# Altium footprint library Logturtle_Power_Transmitter.PcbLib: 21 footprints (part 1 of 2)
Each footprint in its own frame and in the unit in brackets; x right, y up, seen from the top. Pads: shape width x height; smd on the part's side, far side on the other; paste and mask are expansions set on the pad; w line width, h text height; cw(c..) or ccw(c..) is an arc to the next point about the centre after c.
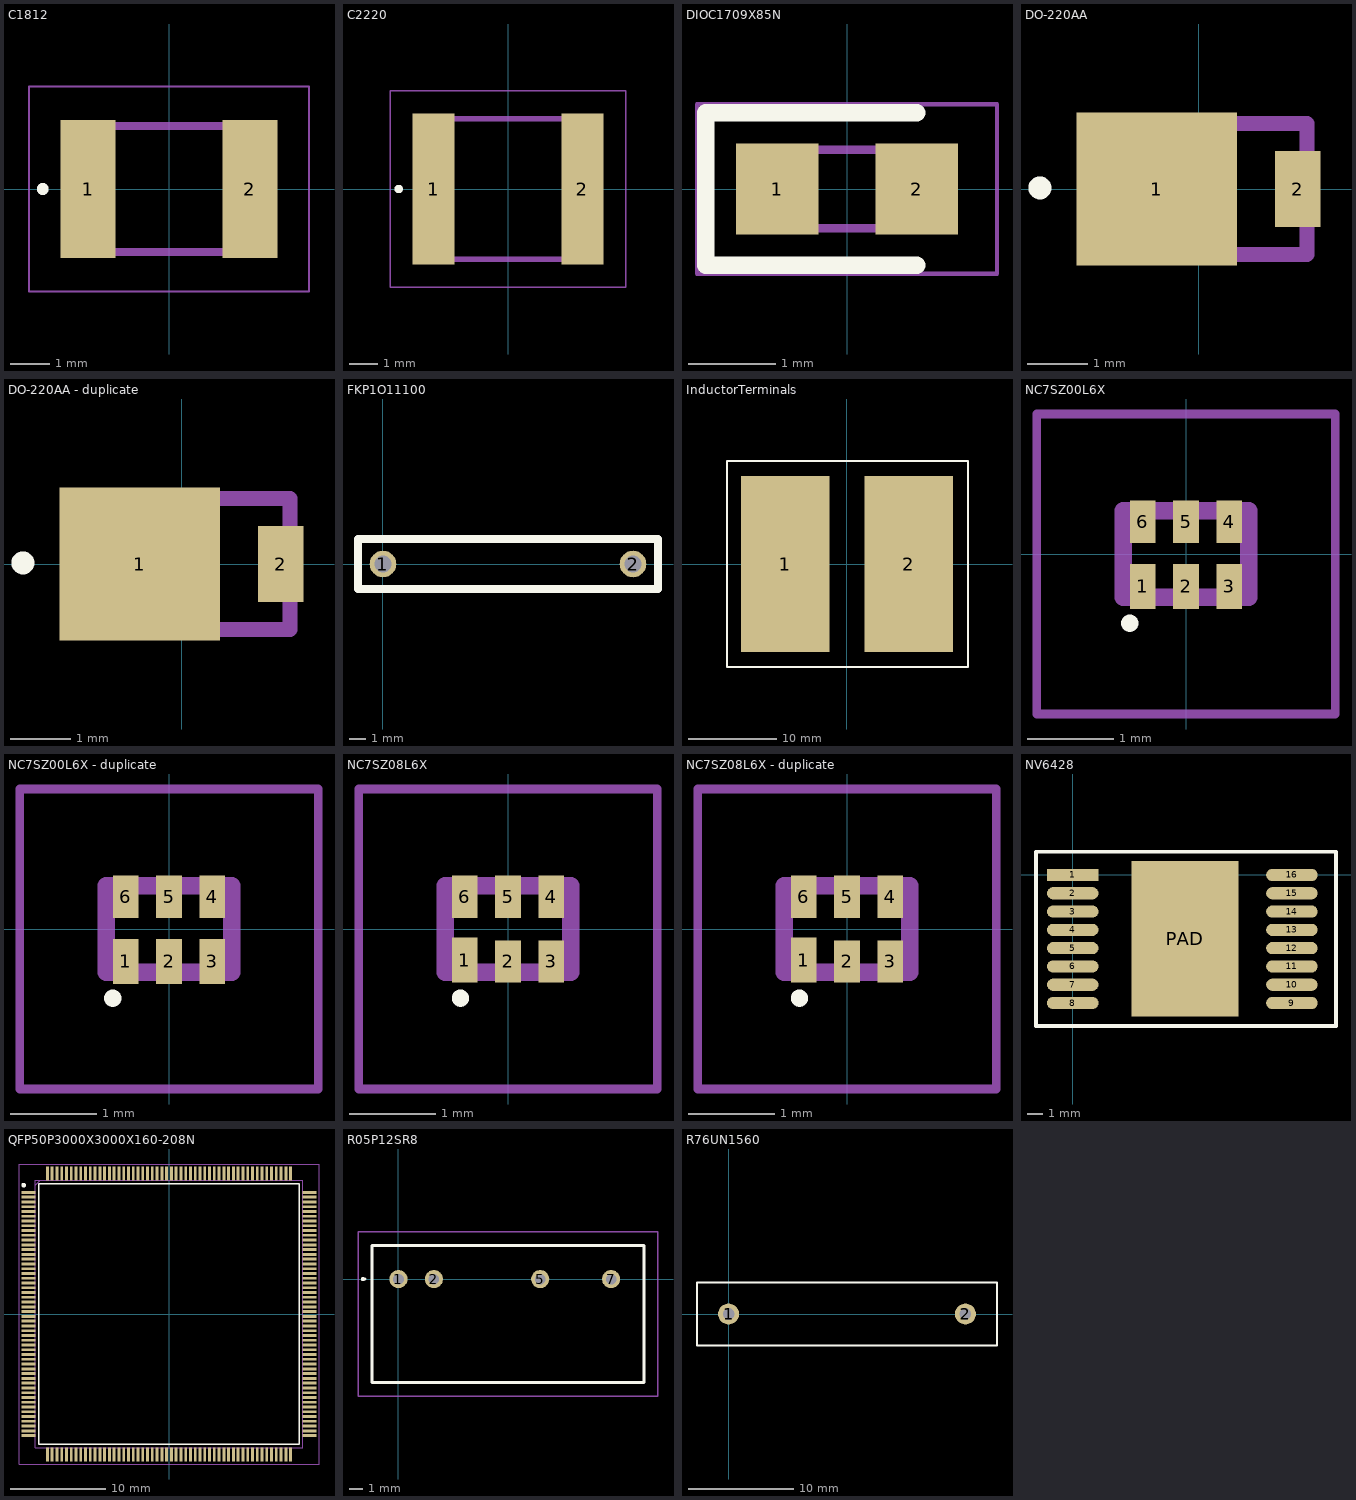
[diagram p0: the footprints below, top view; thin cyan lines are the x and y axes]

## C1812 [mm]
pads (2):
  rect 1.4x3.5 smd: 1(-2.05,0) 2(2.05,0)
Top Overlay:
  circle w0.2: c-3.2,0 r0.05
Mechanical 13:
  lines w0.2: -2.25,-1.6 2.25,-1.6 2.25,1.6 -2.25,1.6 -2.25,-1.6
Mechanical 15:
  lines w0.05: -3.55,-2.6 3.55,-2.6 3.55,2.6 -3.55,2.6 -3.55,-2.6
3D body "C1812C102JDGACAUTO.stp": height 1.4, standoff 0, extent -2.398,-1.751 2.402,1.749

## C2220 [mm]
pads (2):
  rect 1.5x5.4 smd: 1(-2.65,0) 2(2.65,0)
Top Overlay:
  circle w0.2: c-3.9,0 r0.05
Mechanical 13:
  lines w0.2: -2.85,-2.5 -2.85,2.5 2.85,2.5 2.85,-2.5 -2.85,-2.5
Mechanical 15:
  lines w0.05: -4.2,-3.5 -4.2,3.5 4.2,3.5 4.2,-3.5 -4.2,-3.5
3D body "C2220C102JGGACTU.stp": height 1.8, standoff 0, extent -3.05,-2.7 3.05,2.7

## DIOC1709X85N [mm]
pads (2):
  rect 0.95x1.05 smd: 1(-0.8,0) 2(0.8,0)
Top Overlay:
  lines w0.2: 0.8,-0.875 -1.625,-0.875 -1.625,0.875 0.8,0.875
Mechanical 13:
  lines w0.1: -0.85,-0.025 -0.375,0.45 ; -0.85,-0.45 0.85,-0.45 0.85,0.45 -0.85,0.45 -0.85,-0.45
Mechanical 15:
  lines w0.05: -1.725,-0.975 1.725,-0.975 1.725,0.975 -1.725,0.975 -1.725,-0.975
3D body "CD0603-Z5V1.stp": height 0.85, standoff 0, extent -0.85,-0.45 0.85,0.45

## DO-220AA [mil]
pads (2):
  rect 105.12x100 smd: 1(-27.5,0)
  rect 30x50 smd: 2(65.06,0)
Top Overlay:
  circle w10: c-104.06,0.75 r2.55
Mechanical 13:
  lines w10: -71.06,-42.91 71.06,-42.91 71.06,42.91 -71.06,42.91 -71.06,-42.91
3D body "SS2PH10-M3_84A.stp": height 39.37, standoff 0, extent -74.73,-40.07 76.84,39.85

## DO-220AA - duplicate [mil]
pads (2):
  rect 105.12x100 smd: 1(-27.5,0)
  rect 30x50 smd: 2(65.06,0)
Top Overlay:
  circle w10: c-104.06,0.75 r2.55
Mechanical 13:
  lines w10: -71.06,-42.91 71.06,-42.91 71.06,42.91 -71.06,42.91 -71.06,-42.91
3D body "SS2PH10-M3_84A.stp": height 39.37, standoff 0, extent -74.73,-40.07 76.84,39.85

## FKP1O11100 [mm]
pads (2):
  round 1.6 hole 1: 1(0,0) 2(15,0)
Top Overlay:
  lines w0.5: -1.5,-1.5 -1.5,1.5 0,1.5 15,1.5 16.5,1.5 16.5,-1.5 15,-1.5 0,-1.5 -1.5,-1.5

## InductorTerminals [mm]
pads (2):
  rect 10x20 smd: 1(-7,0) 2(7,0)
Top Overlay:
  lines w0.254: -13.589,-11.684 13.716,-11.684 13.716,11.684 -13.589,11.684 -13.589,-11.684

## NC7SZ00L6X [mm]
pads (6):
  rect 0.3x0.52 smd: 1(-0.5,-0.375) 2(0,-0.375) 3(0.5,-0.375)
  rect 0.3x0.49 smd: 4(0.5,0.375) 5(0,0.375) 6(-0.5,0.375)
Top Overlay:
  lines w0.1: -0.7,-0.8 cw(c-0.65,-0.8) -0.6,-0.8 cw(c-0.65,-0.8) -0.7,-0.8
Mechanical 13:
  lines w0.2: -0.725,-0.5 0.725,-0.5 0.725,0.5 -0.725,0.5 -0.725,-0.5
Mechanical 15:
  lines w0.1: -1.725,-1.85 1.725,-1.85 1.725,1.62 -1.725,1.62 -1.725,-1.85
3D body "NC7SZ00L6X.stp": height 0.65, standoff 0, extent -0.725,-0.5 0.725,0.5

## NC7SZ00L6X - duplicate [mm]
pads (6):
  rect 0.3x0.52 smd: 1(-0.5,-0.375) 2(0,-0.375) 3(0.5,-0.375)
  rect 0.3x0.49 smd: 4(0.5,0.375) 5(0,0.375) 6(-0.5,0.375)
Top Overlay:
  lines w0.1: -0.7,-0.8 cw(c-0.65,-0.8) -0.6,-0.8 cw(c-0.65,-0.8) -0.7,-0.8
Mechanical 13:
  lines w0.2: -0.725,-0.5 0.725,-0.5 0.725,0.5 -0.725,0.5 -0.725,-0.5
Mechanical 15:
  lines w0.1: -1.725,-1.85 1.725,-1.85 1.725,1.62 -1.725,1.62 -1.725,-1.85
3D body "NC7SZ00L6X.stp": height 0.65, standoff 0, extent -0.725,-0.5 0.725,0.5

## NC7SZ08L6X [mm]
pads (6):
  rect 0.3x0.52 smd: 1(-0.5,-0.36)
  rect 0.3x0.49 smd: 2(0,-0.375) 3(0.5,-0.375) 4(0.5,0.375) 5(0,0.375) 6(-0.5,0.375)
Top Overlay:
  lines w0.1: -0.6,-0.8 ccw(c-0.55,-0.8) -0.5,-0.8 ccw(c-0.55,-0.8) -0.6,-0.8
Mechanical 13:
  lines w0.2: -0.725,-0.5 0.725,-0.5 0.725,0.5 -0.725,0.5 -0.725,-0.5
Mechanical 15:
  lines w0.1: -1.725,-1.85 1.725,-1.85 1.725,1.62 -1.725,1.62 -1.725,-1.85
3D body "NC7SZ08L6X.stp": height 0.65, standoff 0, extent -0.725,-0.5 0.725,0.5

## NC7SZ08L6X - duplicate [mm]
pads (6):
  rect 0.3x0.52 smd: 1(-0.5,-0.36)
  rect 0.3x0.49 smd: 2(0,-0.375) 3(0.5,-0.375) 4(0.5,0.375) 5(0,0.375) 6(-0.5,0.375)
Top Overlay:
  lines w0.1: -0.6,-0.8 ccw(c-0.55,-0.8) -0.5,-0.8 ccw(c-0.55,-0.8) -0.6,-0.8
Mechanical 13:
  lines w0.2: -0.725,-0.5 0.725,-0.5 0.725,0.5 -0.725,0.5 -0.725,-0.5
Mechanical 15:
  lines w0.1: -1.725,-1.85 1.725,-1.85 1.725,1.62 -1.725,1.62 -1.725,-1.85
3D body "NC7SZ08L6X.stp": height 0.65, standoff 0, extent -0.725,-0.5 0.725,0.5

## NV6428 [mm]
pads (17):
  rect 3.38x0.8 smd: 1(0,0)
  oval 3.38x0.8 smd: 2(0,-1.2) 3(0,-2.4) 4(0,-3.6) 5(0,-4.8) 6(0,-6) 7(0,-7.2) 8(0,-8.4) 9(14.38,-8.4) 10(14.38,-7.2) 11(14.38,-6) 12(14.38,-4.8) 13(14.38,-3.6) 14(14.38,-2.4) 15(14.38,-1.2) 16(14.38,0)
  rect 7x10.2 smd: PAD(7.366,-4.191)
Top Overlay:
  lines w0.254: -2.413,-9.906 17.272,-9.906 17.272,1.524 -2.413,1.524 -2.413,-9.906

## PCBComponent_1 [mm]

## QFP50P3000X3000X160-208N [mm]
pads (208):
  rect 1.475x0.3 smd: 1(-14.738,12.75) 2(-14.738,12.25) 3(-14.738,11.75) 4(-14.738,11.25) 5(-14.738,10.75) 6(-14.738,10.25) 7(-14.738,9.75) 8(-14.738,9.25) 9(-14.738,8.75) 10(-14.738,8.25) 11(-14.738,7.75) 12(-14.738,7.25) 13(-14.738,6.75) 14(-14.738,6.25) 15(-14.738,5.75) 16(-14.738,5.25) 17(-14.738,4.75) 18(-14.738,4.25) 19(-14.738,3.75) 20(-14.738,3.25) 21(-14.738,2.75) 22(-14.738,2.25) 23(-14.738,1.75) 24(-14.738,1.25) 25(-14.738,0.75) 26(-14.738,0.25) 27(-14.738,-0.25) 28(-14.738,-0.75) 29(-14.738,-1.25) 30(-14.738,-1.75) 31(-14.738,-2.25) 32(-14.738,-2.75) 33(-14.738,-3.25) 34(-14.738,-3.75) 35(-14.738,-4.25) 36(-14.738,-4.75) 37(-14.738,-5.25) 38(-14.738,-5.75) 39(-14.738,-6.25) 40(-14.738,-6.75) 41(-14.738,-7.25) 42(-14.738,-7.75) 43(-14.738,-8.25) 44(-14.738,-8.75) 45(-14.738,-9.25) 46(-14.738,-9.75) 47(-14.738,-10.25) 48(-14.738,-10.75) 49(-14.738,-11.25) 50(-14.738,-11.75) 51(-14.738,-12.25) 52(-14.738,-12.75) 105(14.738,-12.75) 106(14.738,-12.25) 107(14.738,-11.75) 108(14.738,-11.25) 109(14.738,-10.75) 110(14.738,-10.25) 111(14.738,-9.75) 112(14.738,-9.25) 113(14.738,-8.75) 114(14.738,-8.25) 115(14.738,-7.75) 116(14.738,-7.25) 117(14.738,-6.75) 118(14.738,-6.25) 119(14.738,-5.75) 120(14.738,-5.25) 121(14.738,-4.75) 122(14.738,-4.25) 123(14.738,-3.75) 124(14.738,-3.25) 125(14.738,-2.75) 126(14.738,-2.25) 127(14.738,-1.75) 128(14.738,-1.25) 129(14.738,-0.75) 130(14.738,-0.25) 131(14.738,0.25) 132(14.738,0.75) 133(14.738,1.25) 134(14.738,1.75) 135(14.738,2.25) 136(14.738,2.75) 137(14.738,3.25) 138(14.738,3.75) 139(14.738,4.25) 140(14.738,4.75) 141(14.738,5.25) 142(14.738,5.75) 143(14.738,6.25) 144(14.738,6.75) 145(14.738,7.25) 146(14.738,7.75) 147(14.738,8.25) 148(14.738,8.75) 149(14.738,9.25) 150(14.738,9.75) 151(14.738,10.25) 152(14.738,10.75) 153(14.738,11.25) 154(14.738,11.75) 155(14.738,12.25) 156(14.738,12.75)
  rect 0.3x1.475 smd: 53(-12.75,-14.738) 54(-12.25,-14.738) 55(-11.75,-14.738) 56(-11.25,-14.738) 57(-10.75,-14.738) 58(-10.25,-14.738) 59(-9.75,-14.738) 60(-9.25,-14.738) 61(-8.75,-14.738) 62(-8.25,-14.738) 63(-7.75,-14.738) 64(-7.25,-14.738) 65(-6.75,-14.738) 66(-6.25,-14.738) 67(-5.75,-14.738) 68(-5.25,-14.738) 69(-4.75,-14.738) 70(-4.25,-14.738) 71(-3.75,-14.738) 72(-3.25,-14.738) 73(-2.75,-14.738) 74(-2.25,-14.738) 75(-1.75,-14.738) 76(-1.25,-14.738) 77(-0.75,-14.738) 78(-0.25,-14.738) 79(0.25,-14.738) 80(0.75,-14.738) 81(1.25,-14.738) 82(1.75,-14.738) 83(2.25,-14.738) 84(2.75,-14.738) 85(3.25,-14.738) 86(3.75,-14.738) 87(4.25,-14.738) 88(4.75,-14.738) 89(5.25,-14.738) 90(5.75,-14.738) 91(6.25,-14.738) 92(6.75,-14.738) 93(7.25,-14.738) 94(7.75,-14.738) 95(8.25,-14.738) 96(8.75,-14.738) 97(9.25,-14.738) 98(9.75,-14.738) 99(10.25,-14.738) 100(10.75,-14.738) 101(11.25,-14.738) 102(11.75,-14.738) 103(12.25,-14.738) 104(12.75,-14.738) 157(12.75,14.738) 158(12.25,14.738) 159(11.75,14.738) 160(11.25,14.738) 161(10.75,14.738) 162(10.25,14.738) 163(9.75,14.738) 164(9.25,14.738) 165(8.75,14.738) 166(8.25,14.738) 167(7.75,14.738) 168(7.25,14.738) 169(6.75,14.738) 170(6.25,14.738) 171(5.75,14.738) 172(5.25,14.738) 173(4.75,14.738) 174(4.25,14.738) 175(3.75,14.738) 176(3.25,14.738) 177(2.75,14.738) 178(2.25,14.738) 179(1.75,14.738) 180(1.25,14.738) 181(0.75,14.738) 182(0.25,14.738) 183(-0.25,14.738) 184(-0.75,14.738) 185(-1.25,14.738) 186(-1.75,14.738) 187(-2.25,14.738) 188(-2.75,14.738) 189(-3.25,14.738) 190(-3.75,14.738) 191(-4.25,14.738) 192(-4.75,14.738) 193(-5.25,14.738) 194(-5.75,14.738) 195(-6.25,14.738) 196(-6.75,14.738) 197(-7.25,14.738) 198(-7.75,14.738) 199(-8.25,14.738) 200(-8.75,14.738) 201(-9.25,14.738) 202(-9.75,14.738) 203(-10.25,14.738) 204(-10.75,14.738) 205(-11.25,14.738) 206(-11.75,14.738) 207(-12.25,14.738) 208(-12.75,14.738)
Top Overlay:
  circle w0.25: c-15.225,13.5 r0.125
  lines w0.2: -13.65,-13.65 -13.65,13.65 13.65,13.65 13.65,-13.65 -13.65,-13.65
Mechanical 13:
  lines w0.1: -14,13.5 -13.5,14 ; -14,-14 -14,14 14,14 14,-14 -14,-14
Mechanical 15:
  lines w0.05: -15.725,-15.725 -15.725,15.725 15.725,15.725 15.725,-15.725 -15.725,-15.725
3D body "STM32H747BIT6.stp": height 1.6, standoff 0, extent -15,-15 15,15

## R05P12SR8 [mm]
pads (4):
  round 1.303 hole 0.76: 1(0,0) 2(2.54,0) 5(10.16,0) 7(15.24,0)
Top Overlay:
  lines w0.2: -2.4,0 -2.5,0 ; -2.5,0 cw(c-2.55,0) -2.6,0 cw(c-2.55,0) -2.5,0 ; -1.9,-7.4 -1.9,2.4 17.6,2.4 17.6,-7.4 -1.9,-7.4
Mechanical 13:
  lines w0.1: -1.9,-7.4 -1.9,2.4 17.6,2.4 17.6,-7.4 -1.9,-7.4
Mechanical 15:
  lines w0.1: -2.9,-8.4 -2.9,3.4 18.6,3.4 18.6,-8.4 -2.9,-8.4
3D body "R05P12S_R8.stp": height 12.6, standoff -4, extent -1.9,-7.4 17.6,2.4

## R76UN1560 [mm]
pads (2):
  round 2 hole 1.1: 1(0,0) 2(22.5,0)
Top Overlay:
  lines w0.2: -3,-3 -3,3 0,3 22.5,3 25.5,3 25.5,-3 22.5,-3 0,-3 -3,-3